# EAGLE library part TES5S-* (library _hhn_traco)
Traco(r) Power TES Single Output Series 5 W DC/DC-Converters, SMD, 2:1 Input (TES 5-xx1y) Author: Dipl.-Ing. FH Rainer Bayer, Hochschule Heilbronn, rainer.bayer@hs-heilbronn.de Note: Applying supply symbols on VIN pins (defined direction is "Pwr") allows different input voltages with multiple converter devices, if needed) TRACO(r) Ordercode : Input V : Output V TES 5-1210 : 12 (9..18) : 3.3 TES 5-1211 : 12 (9..18) : 5.0 TES 5-1212 : 12 (9..18) : 12 TES 5-1213 : 12 (18..36) : 15 TES 5-2410 : 24 (18..36) : 3.3 TES 5-2411 : 24 (18..36) : 5.0 TES 5-2412 : 24 (18..36) : 12 TES 5-2413 : 24 (18..36) : 15 TES 5-4810 : 48 (36..75) : 3.3 TES 5-4811 : 48 (36..75) : 5.0 TES 5-4812 : 48 (36..75) : 12 TES 5-4813 : 48 (36..75) : 15
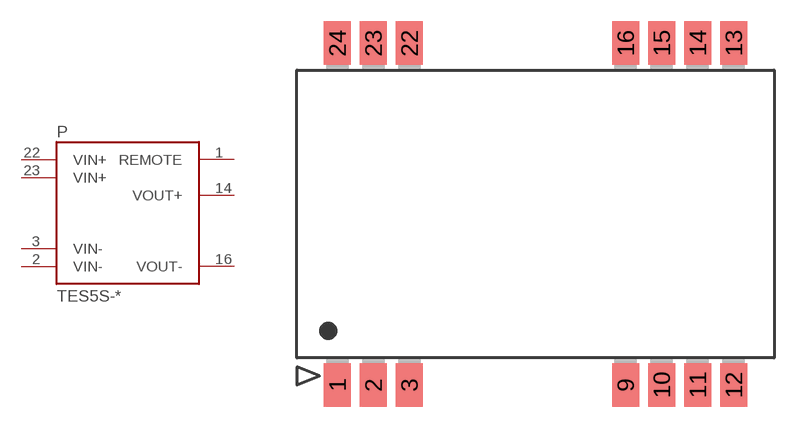
[diagram p0: symbol with the pads of TRACO_SMD_24; footprint TRACO_SMD_24]

Designator prefix P

## TES5S-1210, TES5S-1211, TES5S-1212, TES5S-1213, TES5S-2410, TES5S-2411, TES5S-2412, TES5S-2413, TES5S-4810, TES5S-4811, TES5S-4812, TES5S-4813, TES5S-GENERIC  [TRACO_SMD_24]
1  REMOTE  pas
2  VIN-  pwr
3  VIN-  pwr
14  VOUT+  pas
16  VOUT-  pas
22  VIN+  pwr
23  VIN+  pwr

## Footprint TRACO_SMD_24 (pad centres in mm)
smd 1.9 x 3.065: 1 -13.97,-12.065; 2 -11.43,-12.065; 3 -8.89,-12.065; 9 6.35,-12.065; 10 8.89,-12.065; 11 11.43,-12.065; 12 13.97,-12.065; 13 13.97,12.065; 14 11.43,12.065; 15 8.89,12.065; 16 6.35,12.065; 22 -8.89,12.065; 23 -11.43,12.065; 24 -13.97,12.065